# Altium schematic symbol library potentiometer.SchLib: 1 symbol
Pins are listed as number, name and electrical type; pins without a type are passive.

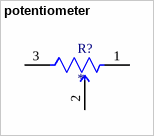
[diagram p0: symbol potentiometer]

## potentiometer
designator R?
footprint potentiometer
pins: 1 CCW, 2 WIPER, 3 CW